# EAGLE library part MIC4421! (library MIC4421)
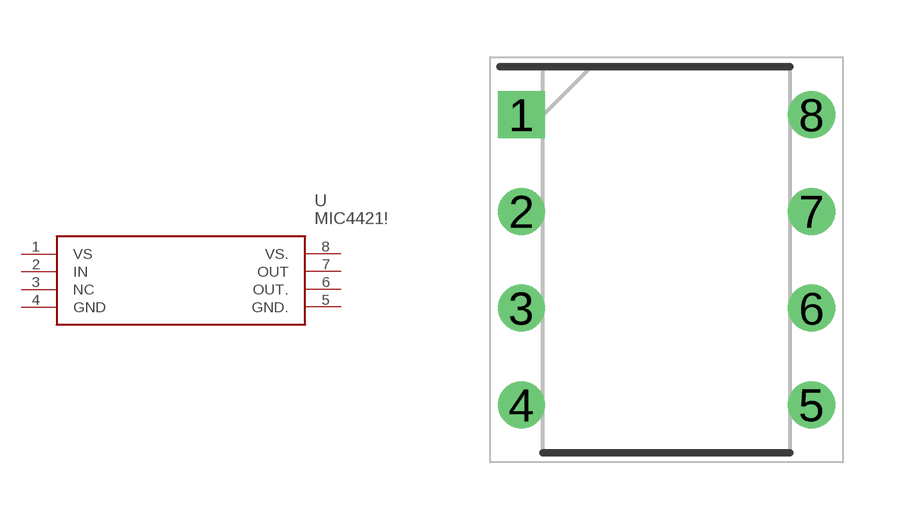
[diagram p0: symbol with the pads of MIC4421; footprint MIC4421]

Designator prefix -

## MIC4421!  [MIC4421]
1  VS
2  IN
3  NC
4  GND
5  GND.
6  OUT.
7  OUT
8  VS.

## Footprint MIC4421 (pad centres in mm)
8-DIP
drill 0.73 pad 1.13 square: 1 -3.81,3.81
drill 0.73 pad 1.13: 2 -3.81,1.27; 3 -3.81,-1.27; 4 -3.81,-3.81; 5 3.81,-3.81; 6 3.81,-1.27; 7 3.81,1.27; 8 3.81,3.81